# EAGLE library part HYPERFLASH_MEMORY (library hyper_ram)
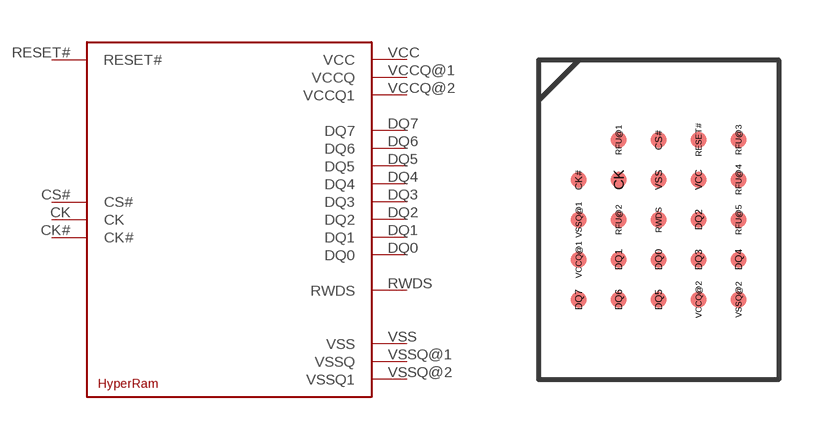
[diagram p0: symbol with the pads of BGA-24_RAM; footprint BGA-24_RAM]

Designator prefix -

## HYPERFLASH_MEMORY  [BGA-24_RAM]
CK  CK
CK#  CK#
CS#  CS#
DQ0  DQ0
DQ1  DQ1
DQ2  DQ2
DQ3  DQ3
DQ4  DQ4
DQ5  DQ5
DQ6  DQ6
DQ7  DQ7
RESET#  RESET#
RWDS  RWDS
VCC  VCC
VCCQ@1  VCCQ
VCCQ@2  VCCQ1
VSS  VSS
VSSQ@1  VSSQ
VSSQ@2  VSSQ1

## Footprint BGA-24_RAM (pad centres in mm)
smd 0.4 x 0.4: CK -1.07,1.016; CK# -2.07,1.016; CS# -0.07,2.016; DQ0 -0.07,-0.984; DQ1 -1.07,-0.984; DQ2 0.93,0.016; DQ3 0.93,-0.984; DQ4 1.93,-0.984; DQ5 -0.07,-1.984; DQ6 -1.07,-1.984; DQ7 -2.07,-1.984; RESET# 0.93,2.016; RFU@1 -1.07,2.016; RFU@2 -1.07,0.016; RFU@3 1.93,2.016; RFU@4 1.93,1.016; RFU@5 1.93,0.016; RWDS -0.07,0.016; VCC 0.93,1.016; VCCQ@1 -2.07,-0.984; VCCQ@2 0.93,-1.984; VSS -0.07,1.016; VSSQ@1 -2.07,0.016; VSSQ@2 1.93,-1.984